# EAGLE library part DS1845E-100 (library DS1845E-100)
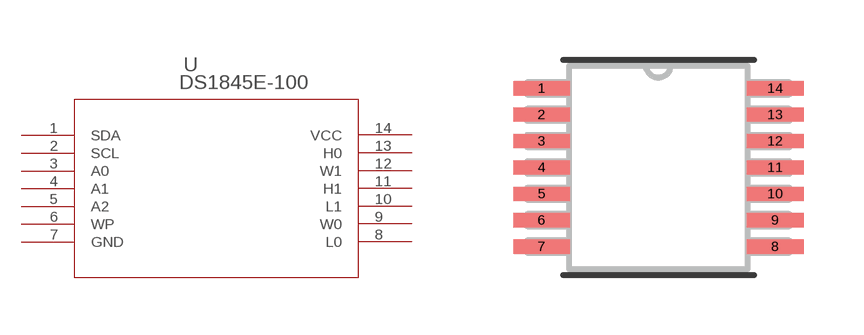
[diagram p0: symbol with the pads of 21-0066J_14; footprint 21-0066J_14]

Designator prefix U

## DS1845E-100 (Description: IC POT/MEM DUAL NV 100K 14-TSSOP; Digi-Key_Part_Number: DS1845E-100+-ND; Digi-Key_Purchase_URL: https://www.digikey.com/product-detail/en/maxim-integrated/DS1845E-100-/DS1845E-100--ND/956971?WT.z_cid=ref_snapeda&utm_source=snapeda&utm_medium=aggregator&utm_campaign=buynow; MF: Maxim Integrated; MP: DS1845E-100+; Package: TSSOP-14 Maxim Integrated)  [21-0066J_14]
1  SDA  pas
2  SCL  pas
3  A0  pas
4  A1  pas
5  A2  pas
6  WP  pas
7  GND  pwr
8  L0  pas
9  W0  pas
10  L1  pas
11  H1  pas
12  W1  pas
13  H0  pas
14  VCC  pwr

## Footprint 21-0066J_14 (pad centres in mm)
smd 1.422 x 0.356: 1 -2.921,1.981; 2 -2.921,1.321; 3 -2.921,0.66; 4 -2.921,0; 5 -2.921,-0.66; 6 -2.921,-1.321; 7 -2.921,-1.981; 8 2.921,-1.981; 9 2.921,-1.321; 10 2.921,-0.66; 11 2.921,0; 12 2.921,0.66; 13 2.921,1.321; 14 2.921,1.981